# Altium schematic symbol library RES,220k,1%,0.125W,0805.Schlib: 1 symbol
Pins are listed as number, name and electrical type; pins without a type are passive.

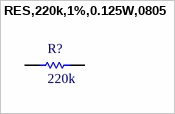
[diagram p0: symbol RES,220k,1%,0.125W,0805]

## RES,220k,1%,0.125W,0805
designator R?, comment 220k
RES SMD 220K OHM 1% 1/8W 0805
pins: 1, 2